# Altium integrated library Lattice ORCA Series 4.IntLib: 36 symbols (part 9 of 9)
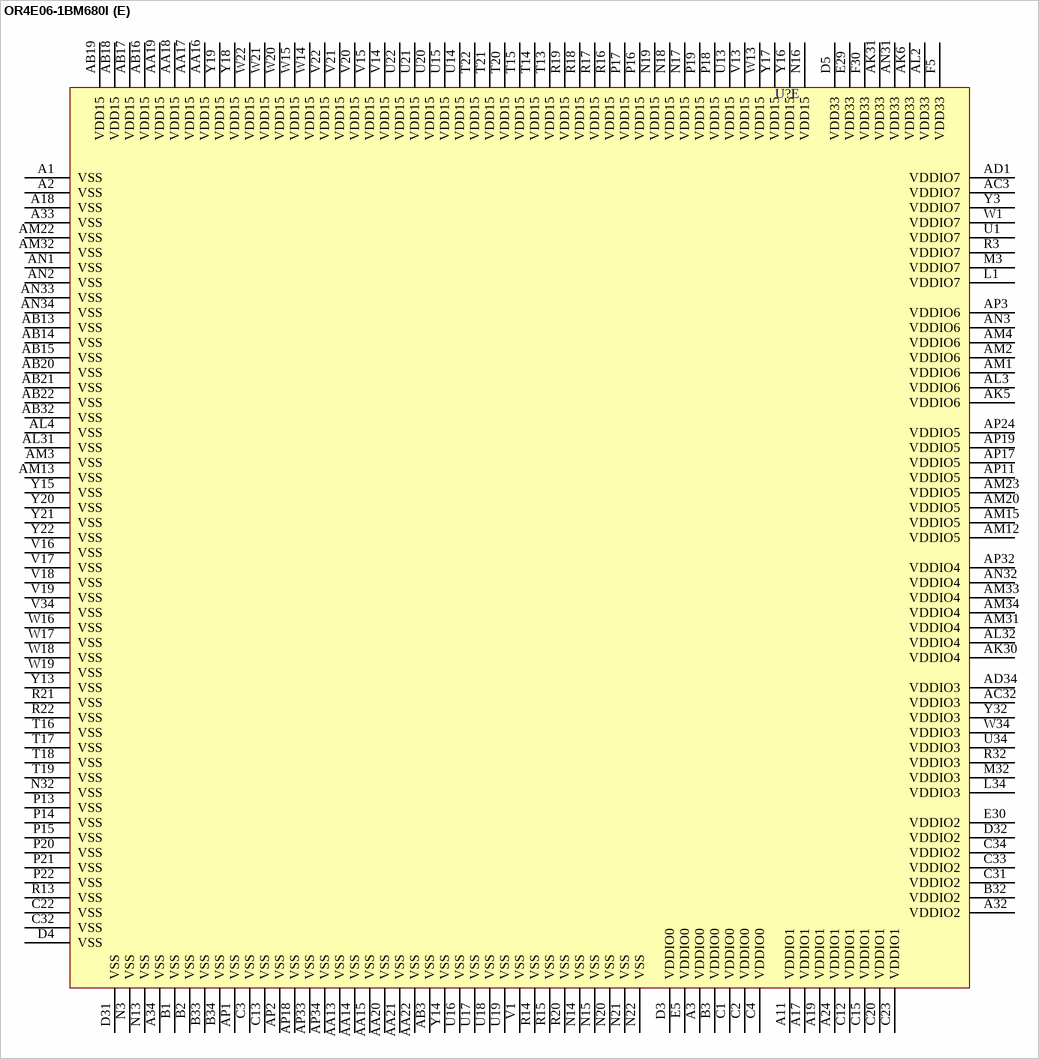
[diagram p126: symbol OR4E06-1BM680I]

## OR4E06-1BM680I
designator U?
ORCA Series 4 FPGA: 1.5 V, Industrial Grade, 466 I/Os.; Published: 21-May-2003; LatestRevisionDate: 13-Apr-2006; LatestRevisionNote: IPC-7351 Footprint Added.; DatasheetVersion: Aug-2003; PackageVersion: pkg_32, Aug-2005; PackageReference: fpBGA680; Publisher: Altium Limited; PackageDescription: 680-Ball Fine Pitch Ball Grid Array (fpBGA680); ComponentLink1Description: Manufacturer Link; ComponentLink1URL: http://www.latticesemi.com/products/fpga/orca/orca4/index.cfm; ComponentLink2Description: Datasheet; ComponentLink2URL: http://www.latticesemi.com/account/_download.cfm?AMID=3970; ComponentLink3Description: Lattice Login; ComponentLink3URL: http://www.latticesemi.com/account/login.cfm
footprint fpBGA680 (BGA, 680-Leads, Body 35x35mm, Pitch 1mm)
3D model OR4E06-fpBGA680 (680-Ball Fine Pitch Ball Grid Array (fpBGA680))
part A pins: AA1 PL28C/PLCK1T (io), AA2 PL28A (io), AA3 PL29A (io), AA4 PL32D/~{WR}/MPI_RW (io), AA5 PL30D/A6/PPC_A20 (io), AB1 PL30C/A5/PPC_A19 (io), AB2 PL31D (io), AB4 PL32C/VREF_7_07 (io), AB5 PL33D (io), AC1 PL33C (io), AC2 PL34D/A4/PPC_A18 (io), AC4 PL35A (io), AC5 PL34C/VREF_7_08 (io), AD2 PL35D/A3/PPC_A17 (io), AD3 PL35C/A2/PPC_A16 (io), AD4 PL37D/DP0 (io), AD5 PL37A (io), AE1 PL36D/A1/PPC_A15 (io), AE2 PL36C/A0/PPC_A14 (io), AE3 PL37C/DP1 (io), AE4 PL38A (io), AE5 PL40D (io), AF1 PL38D/D8 (io), AF2 PL38C/VREF_6_01 (io), AF3 PL39D/D9 (io), AF4 PL39C/D10 (io), AF5 PL41C (io), AG1 PL40C/VREF_6_02 (io), AG2 PL41D (io), AG3 PL42D/D11 (io), AG4 PL42C/D12 (io), AG5 PL44C/D13 (io), AH1 PL43D (io), AH2 PL44B (io), AH3 PL43C (io), AH4 PL44D/VREF_6_03 (io), AH5 PL45C/VREF_6_04 (io), AJ1 PL46A (io), AJ2 PL45D (io), AJ3 PL45A (io), AJ4 PL46D (io), AJ5 PL47B (io), AK1 PL47D/PLL_CK7C/HPPLL (io), AK2 PL47C/PLL_CK7T/HPPLL (io), AK3 PL47A (io), D1 PL2D/PLL_CK0C/HPPLL (io), E1 PL5D (io), E2 PL4D/D5 (io), F1 PL6C/~{LDC} (io), F2 PL5C/VREF_0_08 (io), F3 PL3D (io), F4 PL2C/PLL_CK0T/HPPLL (io), G1 PL9C/A17/PPC_A31 (io), G2 PL8C/D7 (io), G3 PL7C (io), G4 PL3C/VREF_0_07 (io), H1 PL12D/~{INIT} (io), H2 PL11C (io), H3 PL8D/TESTCFG (io), H4 PL7D (io), H5 PL4C/D6 (io), J1 PL13D/VREF_0_10 (io), J2 PL12C/DOUT (io), J3 PL11D (io), J4 PL10D/~{CS0} (io), J5 PL6D/HDC (io), K1 PL15D (io), K2 PL14C/A14/PPC_A28 (io), K3 PL13C/A16/PPC_A30 (io), K4 PL11A (io), K5 PL9D/VREF_0_09 (io), L2 PL15C (io), L3 PL16D/VREF_7_01 (io), L4 PL14D/A15/PPC_A29 (io), L5 PL10C/CS1 (io), M1 PL18C/VREF_7_02 (io), M2 PL17C (io), M4 PL17D (io), M5 PL13A (io), N1 PL19D/A13/PPC_A27 (io), N2 PL20D (io), N4 PL19C/A12/PPC_A26 (io), N5 PL16C/D4 (io), P1 PL20C (io), P2 PL21D/A11/PPC_A25 (io), P3 PL21C/VREF_7_03 (io), P4 PL22D (io), P5 PL18D/RDY/~{BUSY}/RCLK (io), R1 PL22C (io), R2 PL22A (io), R4 PL22B (io), R5 PL20A (io), T1 PL23A (io), T2 PL24D/PLCK0C (io), T3 PL24C/PLCK0T (io), T4 PL23C/VREF_7_04 (io), T5 PL21A (io), U2 PL25D/A10/PPC_A24 (io), U3 PL24A (io), U4 PL24B (io), U5 PL23D/~{RD}/~{MPI_STRB} (io), V2 PL25C/A9/PPC_A23 (io), V3 PL25B (io), V4 PL25A (io), V5 PL23B (io), W2 PL26C/VREF_7_05 (io), W3 PL27D (io), W4 PL28D/PLCK1C (io), W5 PL26D/A8/PPC_A22 (io), Y1 PL27C (io), Y2 PL27A (io), Y4 PL29C/A7/PPC_A21 (io), Y5 PL29D/VREF_7_06 (io)
part B pins: AK7 PB2D/PLL_CK6C/PPLL (io), AK8 PB5C (io), AK9 PB6D/D14 (io), AK10 PB9C/D17 (io), AK11 PB10C/VREF_6_07 (io), AK12 PB13A (io), AK13 PB14C/VREF_6_09 (io), AK14 PB15D (io), AK15 PB18D/D28 (io), AK16 PB19D/D30 (io), AK17 PB21D (io), AK18 PB24D (io), AK19 PB28A (io), AK20 PB29A (io), AK21 PB30A (io), AK22 PB31C (io), AK23 PB32D/VREF_5_05 (io), AK24 PB35C (io), AK25 PB38C/VREF_4_01 (io), AK26 PB39D (io), AK27 PB42C (io), AK28 PB44C (io), AK29 PB46C (io), AL5 PB2A/DP2 (io), AL6 PB3C (io), AL7 PB4C/VREF_6_05 (io), AL8 PB7D (io), AL9 PB10A (io), AL10 PB11C/D20 (io), AL11 PB13B (io), AL12 PB14D/D25 (io), AL13 PB17C (io), AL14 PB20A (io), AL15 PB20D/D31 (io), AL16 PB22A (io), AL17 PB23B (io), AL18 PB24A (io), AL19 PB24C/VREF_5_02 (io), AL20 PB27A (io), AL21 PB28D/PBCK1C (io), AL22 PB30C (io), AL23 PB30D/VREF_5_04 (io), AL24 PB34C (io), AL25 PB36C (io), AL26 PB38D (io), AL27 PB41C (io), AL28 PB41D (io), AL29 PB45A (io), AL30 PB47C/PLL_CK5T/PPLL (io), AM5 PB2B (io), AM6 PB3D (io), AM7 PB8C/D15 (io), AM8 PB8D/D16 (io), AM9 PB10D/D19 (io), AM10 PB12D/D22 (io), AM11 PB14B (io), AM14 PB19C/D29 (io), AM16 PB22C/VREF_5_01 (io), AM17 PB23C/PBCK0T (io), AM18 PB23D/PBCK0C (io), AM19 PB25C (io), AM21 PB28C/PBCK1T (io), AM24 PB33D (io), AM25 PB36D (io), AM26 PB37A (io), AM27 PB39C (io), AM28 PB43A (io), AM29 PB44D/VREF_4_03 (io), AM30 PB46D/VREF_4_04 (io), AN4 PB2C/PLL_CK6T/PPLL (io), AN5 PB4D/DP3 (io), AN6 PB6C/VREF_6_06 (io), AN7 PB9A (io), AN8 PB11A (io), AN9 PB12A (io), AN10 PB13C/D23 (io), AN11 PB14A (io), AN12 PB15C (io), AN13 PB17D (io), AN14 PB19A (io), AN15 PB21A (io), AN16 PB21C (io), AN17 PB23A (io), AN18 PB24B (io), AN19 PB25D (io), AN20 PB26D/VREF_5_03 (io), AN21 PB27D (io), AN22 PB29D (io), AN23 PB31D (io), AN24 PB33C (io), AN25 PB35A (io), AN26 PB36A (io), AN27 PB37D (io), AN28 PB40D/VREF_4_02 (io), AN29 PB43D (io), AN30 PB45D (io), AP4 PB3A (io), AP5 PB5D (io), AP6 PB7C (io), AP7 PB9D/D18 (io), AP8 PB11D/D21 (io), AP9 PB12C/VREF_6_08 (io), AP10 PB13D/D24 (io), AP12 PB16C/D26 (io), AP13 PB16D/D27 (io), AP14 PB18C/VREF_6_10 (io), AP15 PB20C/VREF_6_11 (io), AP16 PB22D (io), AP20 PB26C (io), AP21 PB27C (io), AP22 PB29C (io), AP23 PB32C (io), AP25 PB34D (io), AP26 PB35D/VREF_5_06 (io), AP27 PB37C (io), AP28 PB40C (io), AP29 PB45B (io), AP30 PB45C (io), AP31 PB47D/PLL_CK5C/PPLL (io)
part C pins: AA30 PR32D (io), AA31 PR31A (io), AA32 PR30C (io), AA33 PR28C (io), AA34 PR28A (io), AB30 PR33D (io), AB31 PR32C (io), AB33 PR31D/VREF_3_02 (io), AB34 PR29C (io), AC30 PR35D (io), AC31 PR34D (io), AC33 PR31C (io), AC34 PR30A (io), AD30 PR36C (io), AD31 PR34A (io), AD32 PR33C/VREF_3_01 (io), AD33 PR32B (io), AE30 PR38A (io), AE31 PR37D/VREF_4_08 (io), AE32 PR35C (io), AE33 PR34C (io), AE34 PR33B (io), AF30 PR40A (io), AF31 PR38D (io), AF32 PR37A (io), AF33 PR36B (io), AF34 PR36D (io), AG30 PR42D (io), AG31 PR40D (io), AG32 PR39C (io), AG33 PR37C (io), AG34 PR36A (io), AH30 PR45D (io), AH31 PR43D (io), AH32 PR39A (io), AH33 PR39D/VREF_4_07 (io), AH34 PR38C (io), AJ30 PR46C/PLL_CK4T/PLL2 (io), AJ31 PR44D (io), AJ32 PR43C (io), AJ33 PR41D (io), AJ34 PR40C (io), AK32 PR46D/PLL_CK4C/PLL2 (io), AK33 PR42C (io), AK34 PR41C/VREF_4_06 (io), AL33 PR45C (io), AL34 PR44C/VREF_4_05 (io), D33 PR5D (io), D34 PR6A (io), E31 PR3C/PLL_CK3T/PLL1 (io), E32 PR4D/VREF_2_04 (io), E33 PR5C (io), E34 PR7C (io), F31 PR6D (io), F32 PR6C (io), F33 PR9C/VREF_2_02 (io), F34 PR9A (io), G30 PR3D/PLL_CK3C/PLL1 (io), G31 PR8D (io), G32 PR9D (io), G33 PR10D (io), G34 PR12D (io), H30 PR4C (io), H31 PR10C (io), H32 PR11D (io), H33 PR11C (io), H34 PR13A (io), J30 PR7D/VREF_2_03 (io), J31 PR13D/VREF_2_01 (io), J32 PR12C (io), J33 PR13C (io), J34 PR13B (io), K30 PR8C (io), K31 PR14D (io), K32 PR14A (io), K33 PR15D (io), K34 PR15C (io), L30 PR10A (io), L31 PR16D (io), L32 PR17D (io), L33 PR15A (io), M30 PR11A (io), M31 PR18C (io), M33 PR18D (io), M34 PR17C/VREF_3_07 (io), N30 PR14C/VREF_3_08 (io), N31 PR19D (io), N33 PR19C (io), N34 PR18B (io), P30 PR17A (io), P31 PR20C (io), P32 PR21D/VREF_3_06 (io), P33 PR20D (io), P34 PR21C (io), R30 PR19B (io), R31 PR22C (io), R33 PR21A (io), R34 PR22D (io), T30 PR20A (io), T31 PR23D (io), T32 PR23C/VREF_3_05 (io), T33 PR23A (io), T34 PR24C/PRCK0T (io), U30 PR22A (io), U31 PR24D/PRCK0C (io), U32 PR24B (io), U33 PR24A (io), V30 PR26C (io), V31 PR26D/VREF_3_04 (io), V32 PR25D (io), V33 PR25C (io), W30 PR29D/VREF_3_03 (io), W31 PR28D (io), W32 PR26A (io), W33 PR27D/PRCK1C (io), Y30 PR30D (io), Y31 PR29B (io), Y33 PR27A (io), Y34 PR27C/PRCK1T (io)
part D pins: A4 PT3B (io), A5 PT4A (io), A6 PT5D (io), A7 PT6C/D2 (io), A8 PT9C/A19/MPI_TSZ1 (io), A9 PT10C/TMS (io), A10 PT12D (io), A12 PT16D/M0 (io), A13 PT19C/VREF_1_06 (io), A14 PT20C (io), A15 PT21C (io), A16 PT23B (io), A20 PT26C (io), A21 PT27D (io), A22 PT28C (io), A23 PT29D (io), A25 PT35B (io), A26 PT36A (io), A27 PT36C (io), A28 PT38D (io), A29 PT41D (io), A30 PT42D/VREF_2_06 (io), A31 PT45C (io), AK4 PTEMP, AL1 LVDS_R (io), B4 DONE (io), B5 PT3A (io), B6 PT3D (io), B7 PT5C/VREF_0_05 (io), B8 PT8D/A18/MPI_TSZ0 (io), B9 PT10D/D0 (io), B10 PT12C (io), B11 PT15C/A21/~{MPI_BURST} (io), B12 PT16C/M1 (io), B13 PT19A (io), B14 PT20A (io), B15 PT21A (io), B16 PT22D/PTCK0C (io), B17 PT23D/PTCK1C (io), B18 PT24A (io), B19 PT25D (io), B20 PT26D (io), B21 PT27C (io), B22 PT30C (io), B23 PT30D (io), B24 PT32D (io), B25 PT34C (io), B26 PT36B (io), B27 PT37A (io), B28 PT39D (io), B29 PT44C (io), B30 PT46C (io), B31 PT47C/PLL_CK2T/PPLL (io), C5 PT2B (io), C6 PT2C/PLL_CK1T/PPLL (io), C7 PT4D/TDI (io), C8 PT7D/VREF_0_04 (io), C9 PT11D/VREF_0_03 (io), C10 PT12A (io), C11 PT14D/M2 (io), C14 PT17D (io), C16 PT22C/PTCK0T (io), C17 PT23C/PTCK1T (io), C18 PT24B (io), C19 PT25C (io), C21 PT29C/VREF_1_03 (io), C24 PT33D (io), C25 PT35D (io), C26 PT37D (io), C27 PT40C/VREF_2_07 (io), C28 PT40D (io), C29 PT43C (io), C30 PT47D/PLL_CK2C/PPLL (io), D2 ~{RD_CFG} (in), D6 PT2D/PLL_CK1C/PPLL (io), D7 PT4C/TCK (io), D8 PT7C (io), D9 PT9D/A20/~{MPI_BDIP} (io), D10 PT11C (io), D11 PT13C/~{MPI_TEA} (io), D12 PT13D/VREF_0_02 (io), D13 PT17C/VREF_0_01 (io), D14 PT18C/~{MPI_ACK} (io), D15 PT20D (io), D16 PT22A (io), D17 PT23A (io), D18 PT24C/VREF_1_04 (io), D19 PT27A (io), D20 PT28D (io), D21 PT31C (io), D22 PT32C/VREF_1_02 (io), D23 PT34D/VREF_1_01 (io), D24 PT35A (io), D25 PT36D (io), D26 PT38C/VREF_2_08 (io), D27 PT41C (io), D28 PT44D (io), D29 PT45D/VREF_2_05 (io), D30 PLL_VF, E3 ~{RESET} (in), E4 RD_DATA/TDO (out), E6 CCLK (io), E7 ~{CFG_IRQ/MPI_IRQ} (out), E8 PT2A (io), E9 PT3C/VREF_0_06 (io), E10 PT4B (io), E11 PT6D/D1 (io), E12 PT8C/D3 (io), E13 PT11A (io), E14 PT14C/M3 (io), E15 PT15D/MPI_CLK (io), E16 PT18D/~{MPI_RTRY} (io), E17 PT19D (io), E18 PT21D/VREF_1_05 (io), E19 PT24D (io), E20 PT28A (io), E21 PT29A (io), E22 PT31D (io), E23 PT33C (io), E24 PT35C (io), E25 PT39C (io), E26 PT42C (io), E27 PT43D (io), E28 PT46D (io), G5 ~{PRGM} (in)
part E pins: A1 VSS (power), A2 VSS (power), A3 VDDIO0 (power), A11 VDDIO1 (power), A17 VDDIO1 (power), A18 VSS (power), A19 VDDIO1 (power), A24 VDDIO1 (power), A32 VDDIO2 (power), A33 VSS (power), A34 VSS (power), AA13 VSS (power), AA14 VSS (power), AA15 VSS (power), AA16 VDD15 (power), AA17 VDD15 (power), AA18 VDD15 (power), AA19 VDD15 (power), AA20 VSS (power), AA21 VSS (power), AA22 VSS (power), AB3 VSS (power), AB13 VSS (power), AB14 VSS (power), AB15 VSS (power), AB16 VDD15 (power), AB17 VDD15 (power), AB18 VDD15 (power), AB19 VDD15 (power), AB20 VSS (power), AB21 VSS (power), AB22 VSS (power), AB32 VSS (power), AC3 VDDIO7 (power), AC32 VDDIO3 (power), AD1 VDDIO7 (power), AD34 VDDIO3 (power), AK5 VDDIO6 (power), AK6 VDD33 (power), AK30 VDDIO4 (power), AK31 VDD33 (power), AL2 VDD33 (power), AL3 VDDIO6 (power), AL4 VSS (power), AL31 VSS (power), AL32 VDDIO4 (power), AM1 VDDIO6 (power), AM2 VDDIO6 (power), AM3 VSS (power), AM4 VDDIO6 (power), AM12 VDDIO5 (power), AM13 VSS (power), AM15 VDDIO5 (power), AM20 VDDIO5 (power), AM22 VSS (power), AM23 VDDIO5 (power), AM31 VDDIO4 (power), AM32 VSS (power), AM33 VDDIO4 (power), AM34 VDDIO4 (power), AN1 VSS (power), AN2 VSS (power), AN3 VDDIO6 (power), AN31 VDD33 (power), AN32 VDDIO4 (power), AN33 VSS (power), AN34 VSS (power), AP1 VSS (power), AP2 VSS (power), AP3 VDDIO6 (power), AP11 VDDIO5 (power), AP17 VDDIO5 (power), AP18 VSS (power), AP19 VDDIO5 (power), AP24 VDDIO5 (power), AP32 VDDIO4 (power), AP33 VSS (power), AP34 VSS (power), B1 VSS (power), B2 VSS (power), B3 VDDIO0 (power), B32 VDDIO2 (power), B33 VSS (power), B34 VSS (power), C1 VDDIO0 (power), C2 VDDIO0 (power), C3 VSS (power), C4 VDDIO0 (power), C12 VDDIO1 (power), C13 VSS (power), C15 VDDIO1 (power), C20 VDDIO1 (power), C22 VSS (power), C23 VDDIO1 (power), C31 VDDIO2 (power), C32 VSS (power), C33 VDDIO2 (power), C34 VDDIO2 (power), D3 VDDIO0 (power), D4 VSS (power), D5 VDD33 (power), D31 VSS (power), D32 VDDIO2 (power), E5 VDDIO0 (power), E29 VDD33 (power), E30 VDDIO2 (power), F5 VDD33 (power), F30 VDD33 (power), L1 VDDIO7 (power), L34 VDDIO3 (power), M3 VDDIO7 (power), M32 VDDIO3 (power), N3 VSS (power), N13 VSS (power), N14 VSS (power), N15 VSS (power), N16 VDD15 (power), N17 VDD15 (power), N18 VDD15 (power), N19 VDD15 (power), N20 VSS (power), N21 VSS (power), N22 VSS (power), N32 VSS (power), P13 VSS (power), P14 VSS (power), P15 VSS (power), P16 VDD15 (power), P17 VDD15 (power), P18 VDD15 (power), P19 VDD15 (power), P20 VSS (power), P21 VSS (power), P22 VSS (power), R3 VDDIO7 (power), R13 VSS (power), R14 VSS (power), R15 VSS (power), R16 VDD15 (power), R17 VDD15 (power), R18 VDD15 (power), R19 VDD15 (power), R20 VSS (power), R21 VSS (power), R22 VSS (power), R32 VDDIO3 (power), T13 VDD15 (power), T14 VDD15 (power), T15 VDD15 (power), T16 VSS (power), T17 VSS (power), T18 VSS (power), T19 VSS (power), T20 VDD15 (power), T21 VDD15 (power), T22 VDD15 (power), U1 VDDIO7 (power), U13 VDD15 (power), U14 VDD15 (power), U15 VDD15 (power), U16 VSS (power), U17 VSS (power), U18 VSS (power), U19 VSS (power), U20 VDD15 (power), U21 VDD15 (power), U22 VDD15 (power), U34 VDDIO3 (power), V1 VSS (power), V13 VDD15 (power), V14 VDD15 (power), V15 VDD15 (power), V16 VSS (power), V17 VSS (power), V18 VSS (power), V19 VSS (power), V20 VDD15 (power), V21 VDD15 (power), V22 VDD15 (power), V34 VSS (power), W1 VDDIO7 (power), W13 VDD15 (power), W14 VDD15 (power), W15 VDD15 (power), W16 VSS (power), W17 VSS (power), W18 VSS (power), W19 VSS (power), W20 VDD15 (power), W21 VDD15 (power), W22 VDD15 (power), W34 VDDIO3 (power), Y3 VDDIO7 (power), Y13 VSS (power), Y14 VSS (power), Y15 VSS (power), Y16 VDD15 (power), Y17 VDD15 (power), Y18 VDD15 (power), Y19 VDD15 (power), Y20 VSS (power), Y21 VSS (power), Y22 VSS (power), Y32 VDDIO3 (power)

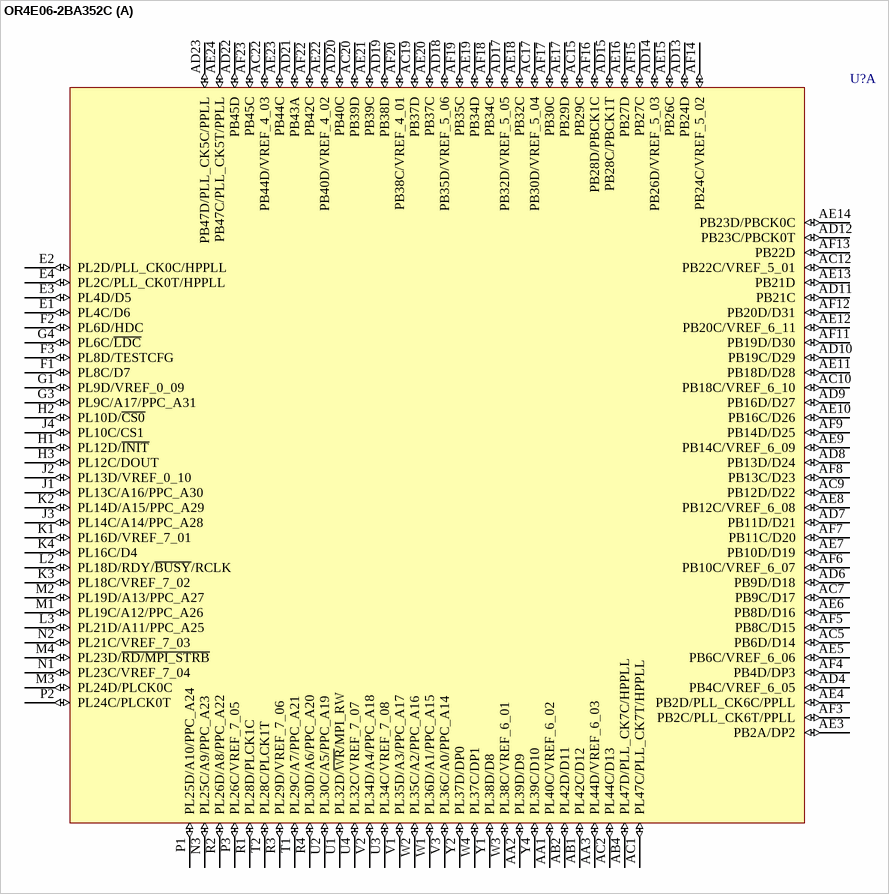
[diagram p112: symbol OR4E06-2BA352C]

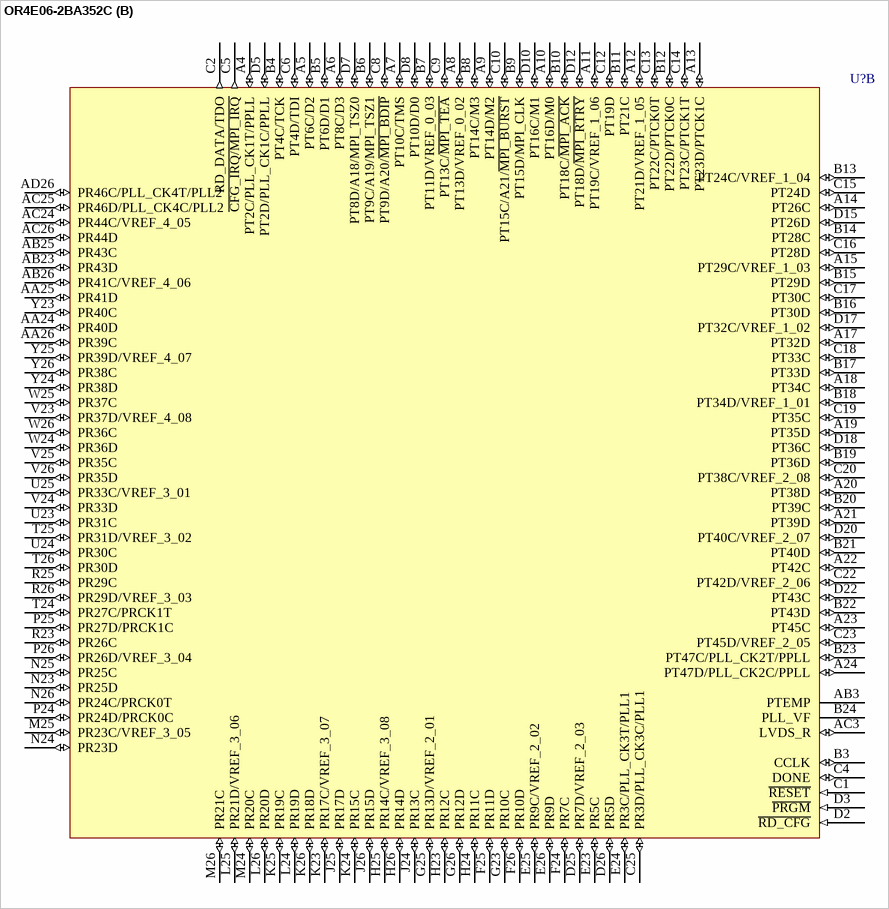
[diagram p113: symbol OR4E06-2BA352C]

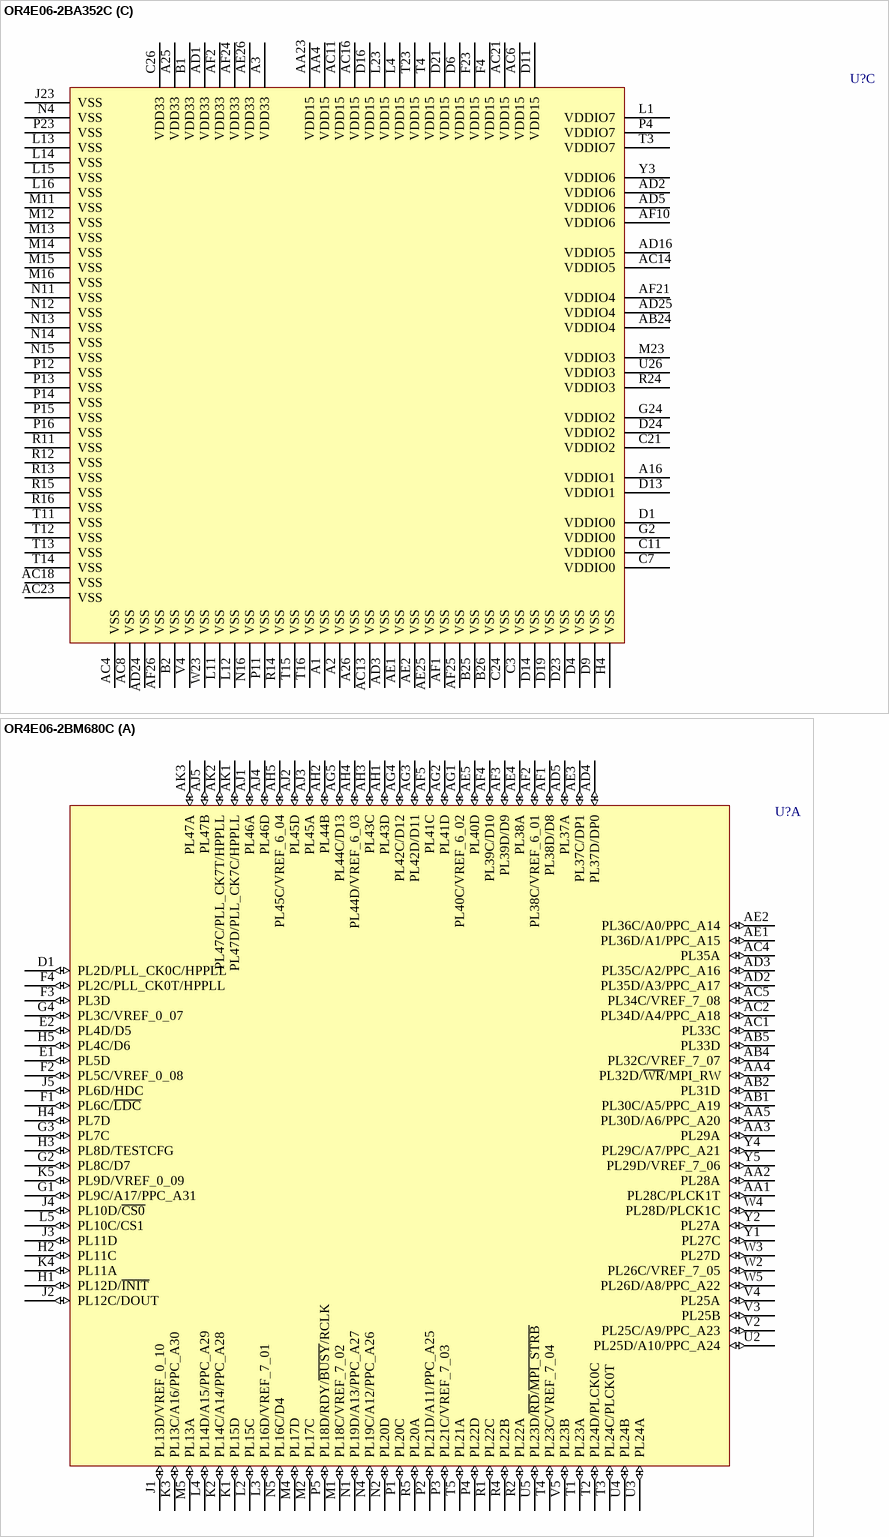
[diagram p114: symbols OR4E06-2BA352C to OR4E06-2BM680C]

## OR4E06-2BA352C
designator U?
ORCA Series 4 FPGA: 1.5 V, Commercial Grade, 466 I/Os.; Published: 21-May-2003; LatestRevisionDate: 13-Apr-2006; LatestRevisionNote: IPC-7351 Footprint Added.; DatasheetVersion: Aug-2003; PackageVersion: pkg_32, Aug-2005; PackageReference: BGA388; Publisher: Altium Limited; PackageDescription: 388-Ball Ball Grid Array (BGA388); ComponentLink1Description: Manufacturer Link; ComponentLink1URL: http://www.latticesemi.com/products/fpga/orca/orca4/index.cfm; ComponentLink2Description: Datasheet; ComponentLink2URL: http://www.latticesemi.com/account/_download.cfm?AMID=3970; ComponentLink3Description: Lattice Login; ComponentLink3URL: http://www.latticesemi.com/account/login.cfm
footprint BGA388 (BGA, 388-Leads, Body 35x35mm, Pitch 1.27mm)
3D model OR4E06-BGA388 (388-Ball Ball Grid Array (BGA388))
part A pins: AA1 PL40C/VREF_6_02 (io), AA2 PL39D/D9 (io), AA3 PL44D/VREF_6_03 (io), AB1 PL42C/D12 (io), AB2 PL42D/D11 (io), AB4 PL47D/PLL_CK7C/HPPLL (io), AC1 PL47C/PLL_CK7T/HPPLL (io), AC2 PL44C/D13 (io), AC5 PB6D/D14 (io), AC7 PB9C/D17 (io), AC9 PB12D/D22 (io), AC10 PB18C/VREF_6_10 (io), AC12 PB22C/VREF_5_01 (io), AC15 PB29C (io), AC17 PB30D/VREF_5_04 (io), AC19 PB37D (io), AC20 PB39D (io), AC22 PB44D/VREF_4_03 (io), AD4 PB4C/VREF_6_05 (io), AD6 PB9D/D18 (io), AD7 PB11D/D21 (io), AD8 PB13D/D24 (io), AD9 PB16D/D27 (io), AD10 PB19C/D29 (io), AD11 PB21C (io), AD12 PB23C/PBCK0T (io), AD13 PB24D (io), AD14 PB26D/VREF_5_03 (io), AD15 PB28C/PBCK1T (io), AD17 PB32D/VREF_5_05 (io), AD18 PB35D/VREF_5_06 (io), AD19 PB38D (io), AD20 PB40C (io), AD21 PB43A (io), AD22 PB45D (io), AD23 PB47D/PLL_CK5C/PPLL (io), AE3 PB2A/DP2 (io), AE4 PB2D/PLL_CK6C/PPLL (io), AE5 PB6C/VREF_6_06 (io), AE6 PB8D/D16 (io), AE7 PB10D/D19 (io), AE8 PB12C/VREF_6_08 (io), AE9 PB14C/VREF_6_09 (io), AE10 PB16C/D26 (io), AE11 PB18D/D28 (io), AE12 PB20C/VREF_6_11 (io), AE13 PB21D (io), AE14 PB23D/PBCK0C (io), AE15 PB26C (io), AE16 PB27D (io), AE17 PB29D (io), AE18 PB32C (io), AE19 PB34D (io), AE20 PB37C (io), AE21 PB39C (io), AE22 PB40D/VREF_4_02 (io), AE23 PB44C (io), AE24 PB47C/PLL_CK5T/PPLL (io), AF3 PB2C/PLL_CK6T/PPLL (io), AF4 PB4D/DP3 (io), AF5 PB8C/D15 (io), AF6 PB10C/VREF_6_07 (io), AF7 PB11C/D20 (io), AF8 PB13C/D23 (io), AF9 PB14D/D25 (io), AF11 PB19D/D30 (io), AF12 PB20D/D31 (io), AF13 PB22D (io), AF14 PB24C/VREF_5_02 (io), AF15 PB27C (io), AF16 PB28D/PBCK1C (io), AF17 PB30C (io), AF18 PB34C (io), AF19 PB35C (io), AF20 PB38C/VREF_4_01 (io), AF22 PB42C (io), AF23 PB45C (io), E1 PL4C/D6 (io), E2 PL2D/PLL_CK0C/HPPLL (io), E3 PL4D/D5 (io), E4 PL2C/PLL_CK0T/HPPLL (io), F1 PL8C/D7 (io), F2 PL6D/HDC (io), F3 PL8D/TESTCFG (io), G1 PL9D/VREF_0_09 (io), G3 PL9C/A17/PPC_A31 (io), G4 PL6C/~{LDC} (io), H1 PL12D/~{INIT} (io), H2 PL10D/~{CS0} (io), H3 PL12C/DOUT (io), J1 PL13C/A16/PPC_A30 (io), J2 PL13D/VREF_0_10 (io), J3 PL14C/A14/PPC_A28 (io), J4 PL10C/CS1 (io), K1 PL16D/VREF_7_01 (io), K2 PL14D/A15/PPC_A29 (io), K3 PL18C/VREF_7_02 (io), K4 PL16C/D4 (io), L2 PL18D/RDY/~{BUSY}/RCLK (io), L3 PL21D/A11/PPC_A25 (io), M1 PL19C/A12/PPC_A26 (io), M2 PL19D/A13/PPC_A27 (io), M3 PL24D/PLCK0C (io), M4 PL23D/~{RD/MPI_STRB} (io), N1 PL23C/VREF_7_04 (io), N2 PL21C/VREF_7_03 (io), N3 PL25C/A9/PPC_A23 (io), P1 PL25D/A10/PPC_A24 (io), P2 PL24C/PLCK0T (io), P3 PL26C/VREF_7_05 (io), R1 PL28D/PLCK1C (io), R2 PL26D/A8/PPC_A22 (io), R3 PL29D/VREF_7_06 (io), R4 PL30D/A6/PPC_A20 (io), T1 PL29C/A7/PPC_A21 (io), T2 PL28C/PLCK1T (io), U1 PL32D/~{WR}/MPI_RW (io), U2 PL30C/A5/PPC_A19 (io), U3 PL34C/VREF_7_08 (io), U4 PL32C/VREF_7_07 (io), V1 PL35D/A3/PPC_A17 (io), V2 PL34D/A4/PPC_A18 (io), V3 PL36C/A0/PPC_A14 (io), W1 PL36D/A1/PPC_A15 (io), W2 PL35C/A2/PPC_A16 (io), W3 PL38C/VREF_6_01 (io), W4 PL37C/DP1 (io), Y1 PL38D/D8 (io), Y2 PL37D/DP0 (io), Y4 PL39C/D10 (io)
part B pins: A4 PT2C/PLL_CK1T/PPLL (io), A5 PT6C/D2 (io), A6 PT8C/D3 (io), A7 PT10C/TMS (io), A8 PT13D/VREF_0_02 (io), A9 PT14D/M2 (io), A10 PT16D/M0 (io), A11 PT19C/VREF_1_06 (io), A12 PT21D/VREF_1_05 (io), A13 PT23D/PTCK1C (io), A14 PT26C (io), A15 PT29C/VREF_1_03 (io), A17 PT32D (io), A18 PT34C (io), A19 PT35D (io), A20 PT38D (io), A21 PT39D (io), A22 PT42C (io), A23 PT45C (io), A24 PT47D/PLL_CK2C/PPLL (io), AA24 PR40D (io), AA25 PR41D (io), AA26 PR39C (io), AB3 PTEMP, AB23 PR43D (io), AB25 PR43C (io), AB26 PR41C/VREF_4_06 (io), AC3 LVDS_R (io), AC24 PR44C/VREF_4_05 (io), AC25 PR46D/PLL_CK4C/PLL2 (io), AC26 PR44D (io), AD26 PR46C/PLL_CK4T/PLL2 (io), B3 CCLK (io), B4 PT4C/TCK (io), B5 PT6D/D1 (io), B6 PT9C/A19/MPI_TSZ1 (io), B7 PT11D/VREF_0_03 (io), B8 PT14C/M3 (io), B9 PT15D/MPI_CLK (io), B10 PT18C/~{MPI_ACK} (io), B11 PT21C (io), B12 PT22D/PTCK0C (io), B13 PT24C/VREF_1_04 (io), B14 PT28C (io), B15 PT29D (io), B16 PT30D (io), B17 PT33D (io), B18 PT34D/VREF_1_01 (io), B19 PT36D (io), B20 PT39C (io), B21 PT40D (io), B22 PT43D (io), B23 PT47C/PLL_CK2T/PPLL (io), B24 PLL_VF, C1 ~{RESET} (in), C2 RD_DATA/TDO (out), C4 DONE (io), C5 ~{CFG_IRQ/MPI_IRQ} (out), C6 PT4D/TDI (io), C8 PT9D/A20/~{MPI_BDIP} (io), C9 PT13C/~{MPI_TEA} (io), C10 PT15C/A21/~{MPI_BURST} (io), C12 PT19D (io), C13 PT22C/PTCK0T (io), C14 PT23C/PTCK1T (io), C15 PT24D (io), C16 PT28D (io), C17 PT30C (io), C18 PT33C (io), C19 PT35C (io), C20 PT38C/VREF_2_08 (io), C22 PT42D/VREF_2_06 (io), C23 PT45D/VREF_2_05 (io), C25 PR3D/PLL_CK3C/PLL1 (io), D2 ~{RD_CFG} (in), D3 ~{PRGM} (in), D5 PT2D/PLL_CK1C/PPLL (io), D7 PT8D/A18/MPI_TSZ0 (io), D8 PT10D/D0 (io), D10 PT16C/M1 (io), D12 PT18D/~{MPI_RTRY} (io), D15 PT26D (io), D17 PT32C/VREF_1_02 (io), D18 PT36C (io), D20 PT40C/VREF_2_07 (io), D22 PT43C (io), D25 PR7D/VREF_2_03 (io), D26 PR5D (io), E23 PR5C (io), E24 PR3C/PLL_CK3T/PLL1 (io), E25 PR9C/VREF_2_02 (io), E26 PR9D (io), F24 PR7C (io), F25 PR11D (io), F26 PR10D (io), G23 PR10C (io), G25 PR13D/VREF_2_01 (io), G26 PR12D (io), H23 PR12C (io), H24 PR11C (io), H25 PR14C/VREF_3_08 (io), H26 PR14D (io), J24 PR13C (io), J25 PR17D (io), J26 PR15D (io), K23 PR17C/VREF_3_07 (io), K24 PR15C (io), K25 PR19C (io), K26 PR18D (io), L24 PR19D (io), L25 PR21D/VREF_3_06 (io), L26 PR20D (io), M24 PR20C (io), M25 PR23C/VREF_3_05 (io), M26 PR21C (io), N23 PR25D (io), N24 PR23D (io), N25 PR25C (io), N26 PR24C/PRCK0T (io), P24 PR24D/PRCK0C (io), P25 PR27D/PRCK1C (io), P26 PR26D/VREF_3_04 (io), R23 PR26C (io), R25 PR29C (io), R26 PR29D/VREF_3_03 (io), T24 PR27C/PRCK1T (io), T25 PR31D/VREF_3_02 (io), T26 PR30D (io), U23 PR31C (io), U24 PR30C (io), U25 PR33C/VREF_3_01 (io), V23 PR37D/VREF_4_08 (io), V24 PR33D (io), V25 PR35C (io), V26 PR35D (io), W24 PR36D (io), W25 PR37C (io), W26 PR36C (io), Y23 PR40C (io), Y24 PR38D (io), Y25 PR39D/VREF_4_07 (io), Y26 PR38C (io)
part C pins: A1 VSS (power), A2 VSS (power), A3 VDD33 (power), A16 VDDIO1 (power), A25 VDD33 (power), A26 VSS (power), AA4 VDD15 (power), AA23 VDD15 (power), AB24 VDDIO4 (power), AC4 VSS (power), AC6 VDD15 (power), AC8 VSS (power), AC11 VDD15 (power), AC13 VSS (power), AC14 VDDIO5 (power), AC16 VDD15 (power), AC18 VSS (power), AC21 VDD15 (power), AC23 VSS (power), AD1 VDD33 (power), AD2 VDDIO6 (power), AD3 VSS (power), AD5 VDDIO6 (power), AD16 VDDIO5 (power), AD24 VSS (power), AD25 VDDIO4 (power), AE1 VSS (power), AE2 VSS (power), AE25 VSS (power), AE26 VDD33 (power), AF1 VSS (power), AF2 VDD33 (power), AF10 VDDIO6 (power), AF21 VDDIO4 (power), AF24 VDD33 (power), AF25 VSS (power), AF26 VSS (power), B1 VDD33 (power), B2 VSS (power), B25 VSS (power), B26 VSS (power), C3 VSS (power), C7 VDDIO0 (power), C11 VDDIO0 (power), C21 VDDIO2 (power), C24 VSS (power), C26 VDD33 (power), D1 VDDIO0 (power), D4 VSS (power), D6 VDD15 (power), D9 VSS (power), D11 VDD15 (power), D13 VDDIO1 (power), D14 VSS (power), D16 VDD15 (power), D19 VSS (power), D21 VDD15 (power), D23 VSS (power), D24 VDDIO2 (power), F4 VDD15 (power), F23 VDD15 (power), G2 VDDIO0 (power), G24 VDDIO2 (power), H4 VSS (power), J23 VSS (power), L1 VDDIO7 (power), L4 VDD15 (power), L11 VSS (power), L12 VSS (power), L13 VSS (power), L14 VSS (power), L15 VSS (power), L16 VSS (power), L23 VDD15 (power), M11 VSS (power), M12 VSS (power), M13 VSS (power), M14 VSS (power), M15 VSS (power), M16 VSS (power), M23 VDDIO3 (power), N4 VSS (power), N11 VSS (power), N12 VSS (power), N13 VSS (power), N14 VSS (power), N15 VSS (power), N16 VSS (power), P4 VDDIO7 (power), P11 VSS (power), P12 VSS (power), P13 VSS (power), P14 VSS (power), P15 VSS (power), P16 VSS (power), P23 VSS (power), R11 VSS (power), R12 VSS (power), R13 VSS (power), R14 VSS (power), R15 VSS (power), R16 VSS (power), R24 VDDIO3 (power), T3 VDDIO7 (power), T4 VDD15 (power), T11 VSS (power), T12 VSS (power), T13 VSS (power), T14 VSS (power), T15 VSS (power), T16 VSS (power), T23 VDD15 (power), U26 VDDIO3 (power), V4 VSS (power), W23 VSS (power), Y3 VDDIO6 (power)

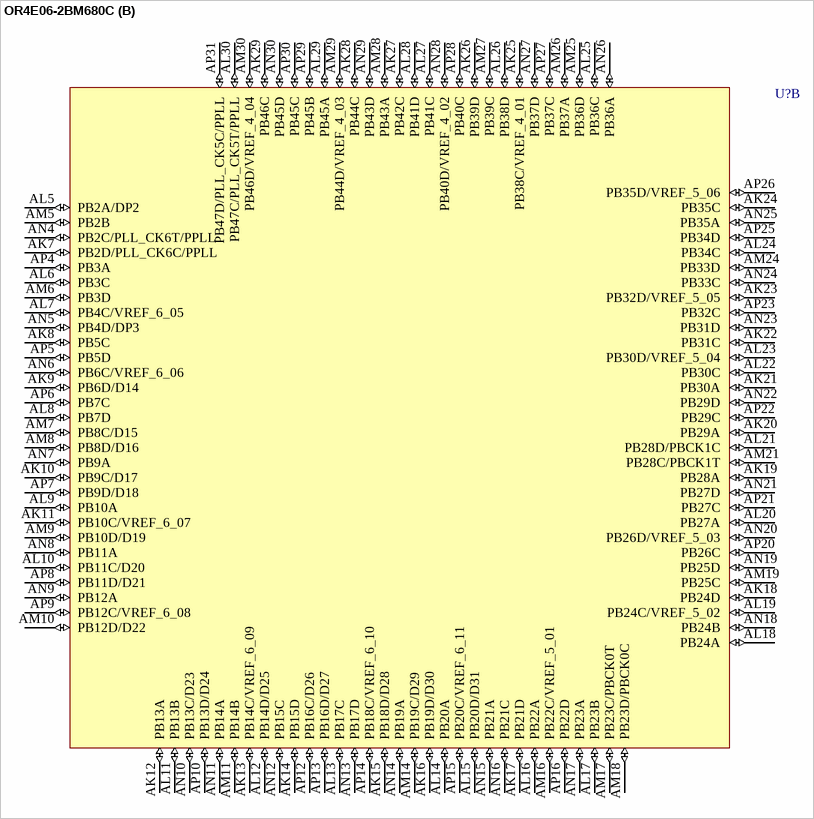
[diagram p115: symbol OR4E06-2BM680C]

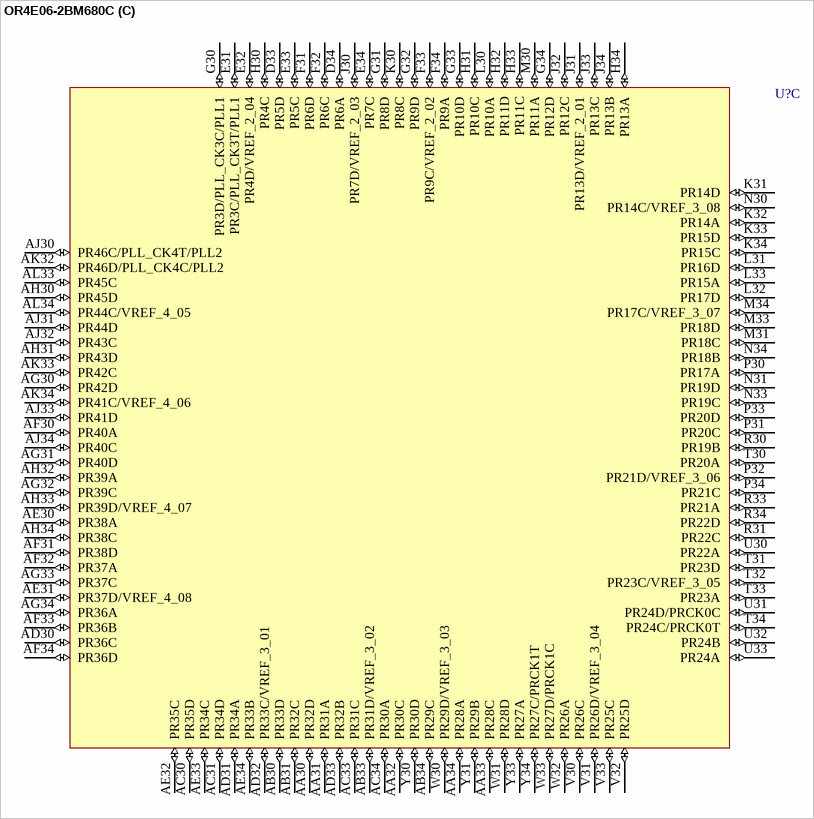
[diagram p116: symbol OR4E06-2BM680C]

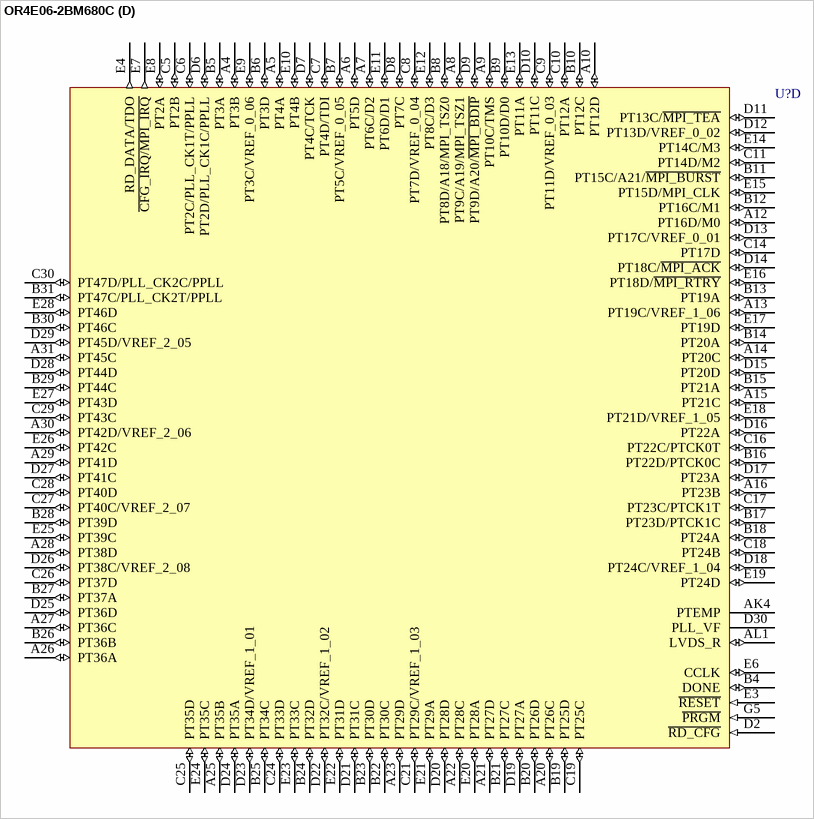
[diagram p117: symbol OR4E06-2BM680C]

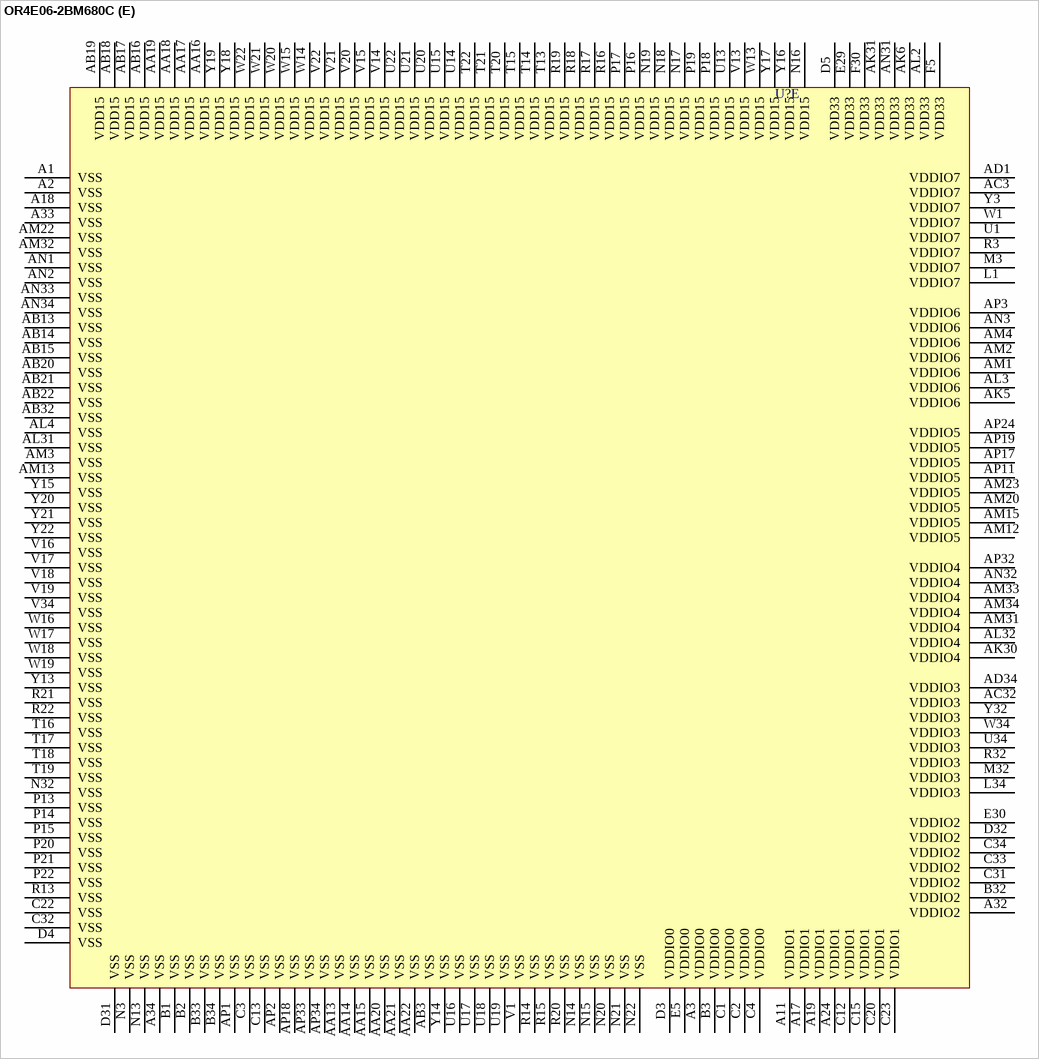
[diagram p118: symbol OR4E06-2BM680C]

## OR4E06-2BM680C
designator U?
ORCA Series 4 FPGA: 1.5 V, Commercial Grade, 466 I/Os.; Published: 21-May-2003; LatestRevisionDate: 13-Apr-2006; LatestRevisionNote: IPC-7351 Footprint Added.; DatasheetVersion: Aug-2003; PackageVersion: pkg_32, Aug-2005; PackageReference: fpBGA680; Publisher: Altium Limited; PackageDescription: 680-Ball Fine Pitch Ball Grid Array (fpBGA680); ComponentLink1Description: Manufacturer Link; ComponentLink1URL: http://www.latticesemi.com/products/fpga/orca/orca4/index.cfm; ComponentLink2Description: Datasheet; ComponentLink2URL: http://www.latticesemi.com/account/_download.cfm?AMID=3970; ComponentLink3Description: Lattice Login; ComponentLink3URL: http://www.latticesemi.com/account/login.cfm
footprint fpBGA680 (BGA, 680-Leads, Body 35x35mm, Pitch 1mm)
3D model OR4E06-fpBGA680 (680-Ball Fine Pitch Ball Grid Array (fpBGA680))
part A pins: AA1 PL28C/PLCK1T (io), AA2 PL28A (io), AA3 PL29A (io), AA4 PL32D/~{WR}/MPI_RW (io), AA5 PL30D/A6/PPC_A20 (io), AB1 PL30C/A5/PPC_A19 (io), AB2 PL31D (io), AB4 PL32C/VREF_7_07 (io), AB5 PL33D (io), AC1 PL33C (io), AC2 PL34D/A4/PPC_A18 (io), AC4 PL35A (io), AC5 PL34C/VREF_7_08 (io), AD2 PL35D/A3/PPC_A17 (io), AD3 PL35C/A2/PPC_A16 (io), AD4 PL37D/DP0 (io), AD5 PL37A (io), AE1 PL36D/A1/PPC_A15 (io), AE2 PL36C/A0/PPC_A14 (io), AE3 PL37C/DP1 (io), AE4 PL38A (io), AE5 PL40D (io), AF1 PL38D/D8 (io), AF2 PL38C/VREF_6_01 (io), AF3 PL39D/D9 (io), AF4 PL39C/D10 (io), AF5 PL41C (io), AG1 PL40C/VREF_6_02 (io), AG2 PL41D (io), AG3 PL42D/D11 (io), AG4 PL42C/D12 (io), AG5 PL44C/D13 (io), AH1 PL43D (io), AH2 PL44B (io), AH3 PL43C (io), AH4 PL44D/VREF_6_03 (io), AH5 PL45C/VREF_6_04 (io), AJ1 PL46A (io), AJ2 PL45D (io), AJ3 PL45A (io), AJ4 PL46D (io), AJ5 PL47B (io), AK1 PL47D/PLL_CK7C/HPPLL (io), AK2 PL47C/PLL_CK7T/HPPLL (io), AK3 PL47A (io), D1 PL2D/PLL_CK0C/HPPLL (io), E1 PL5D (io), E2 PL4D/D5 (io), F1 PL6C/~{LDC} (io), F2 PL5C/VREF_0_08 (io), F3 PL3D (io), F4 PL2C/PLL_CK0T/HPPLL (io), G1 PL9C/A17/PPC_A31 (io), G2 PL8C/D7 (io), G3 PL7C (io), G4 PL3C/VREF_0_07 (io), H1 PL12D/~{INIT} (io), H2 PL11C (io), H3 PL8D/TESTCFG (io), H4 PL7D (io), H5 PL4C/D6 (io), J1 PL13D/VREF_0_10 (io), J2 PL12C/DOUT (io), J3 PL11D (io), J4 PL10D/~{CS0} (io), J5 PL6D/HDC (io), K1 PL15D (io), K2 PL14C/A14/PPC_A28 (io), K3 PL13C/A16/PPC_A30 (io), K4 PL11A (io), K5 PL9D/VREF_0_09 (io), L2 PL15C (io), L3 PL16D/VREF_7_01 (io), L4 PL14D/A15/PPC_A29 (io), L5 PL10C/CS1 (io), M1 PL18C/VREF_7_02 (io), M2 PL17C (io), M4 PL17D (io), M5 PL13A (io), N1 PL19D/A13/PPC_A27 (io), N2 PL20D (io), N4 PL19C/A12/PPC_A26 (io), N5 PL16C/D4 (io), P1 PL20C (io), P2 PL21D/A11/PPC_A25 (io), P3 PL21C/VREF_7_03 (io), P4 PL22D (io), P5 PL18D/RDY/~{BUSY}/RCLK (io), R1 PL22C (io), R2 PL22A (io), R4 PL22B (io), R5 PL20A (io), T1 PL23A (io), T2 PL24D/PLCK0C (io), T3 PL24C/PLCK0T (io), T4 PL23C/VREF_7_04 (io), T5 PL21A (io), U2 PL25D/A10/PPC_A24 (io), U3 PL24A (io), U4 PL24B (io), U5 PL23D/~{RD}/~{MPI_STRB} (io), V2 PL25C/A9/PPC_A23 (io), V3 PL25B (io), V4 PL25A (io), V5 PL23B (io), W2 PL26C/VREF_7_05 (io), W3 PL27D (io), W4 PL28D/PLCK1C (io), W5 PL26D/A8/PPC_A22 (io), Y1 PL27C (io), Y2 PL27A (io), Y4 PL29C/A7/PPC_A21 (io), Y5 PL29D/VREF_7_06 (io)
part B pins: AK7 PB2D/PLL_CK6C/PPLL (io), AK8 PB5C (io), AK9 PB6D/D14 (io), AK10 PB9C/D17 (io), AK11 PB10C/VREF_6_07 (io), AK12 PB13A (io), AK13 PB14C/VREF_6_09 (io), AK14 PB15D (io), AK15 PB18D/D28 (io), AK16 PB19D/D30 (io), AK17 PB21D (io), AK18 PB24D (io), AK19 PB28A (io), AK20 PB29A (io), AK21 PB30A (io), AK22 PB31C (io), AK23 PB32D/VREF_5_05 (io), AK24 PB35C (io), AK25 PB38C/VREF_4_01 (io), AK26 PB39D (io), AK27 PB42C (io), AK28 PB44C (io), AK29 PB46C (io), AL5 PB2A/DP2 (io), AL6 PB3C (io), AL7 PB4C/VREF_6_05 (io), AL8 PB7D (io), AL9 PB10A (io), AL10 PB11C/D20 (io), AL11 PB13B (io), AL12 PB14D/D25 (io), AL13 PB17C (io), AL14 PB20A (io), AL15 PB20D/D31 (io), AL16 PB22A (io), AL17 PB23B (io), AL18 PB24A (io), AL19 PB24C/VREF_5_02 (io), AL20 PB27A (io), AL21 PB28D/PBCK1C (io), AL22 PB30C (io), AL23 PB30D/VREF_5_04 (io), AL24 PB34C (io), AL25 PB36C (io), AL26 PB38D (io), AL27 PB41C (io), AL28 PB41D (io), AL29 PB45A (io), AL30 PB47C/PLL_CK5T/PPLL (io), AM5 PB2B (io), AM6 PB3D (io), AM7 PB8C/D15 (io), AM8 PB8D/D16 (io), AM9 PB10D/D19 (io), AM10 PB12D/D22 (io), AM11 PB14B (io), AM14 PB19C/D29 (io), AM16 PB22C/VREF_5_01 (io), AM17 PB23C/PBCK0T (io), AM18 PB23D/PBCK0C (io), AM19 PB25C (io), AM21 PB28C/PBCK1T (io), AM24 PB33D (io), AM25 PB36D (io), AM26 PB37A (io), AM27 PB39C (io), AM28 PB43A (io), AM29 PB44D/VREF_4_03 (io), AM30 PB46D/VREF_4_04 (io), AN4 PB2C/PLL_CK6T/PPLL (io), AN5 PB4D/DP3 (io), AN6 PB6C/VREF_6_06 (io), AN7 PB9A (io), AN8 PB11A (io), AN9 PB12A (io), AN10 PB13C/D23 (io), AN11 PB14A (io), AN12 PB15C (io), AN13 PB17D (io), AN14 PB19A (io), AN15 PB21A (io), AN16 PB21C (io), AN17 PB23A (io), AN18 PB24B (io), AN19 PB25D (io), AN20 PB26D/VREF_5_03 (io), AN21 PB27D (io), AN22 PB29D (io), AN23 PB31D (io), AN24 PB33C (io), AN25 PB35A (io), AN26 PB36A (io), AN27 PB37D (io), AN28 PB40D/VREF_4_02 (io), AN29 PB43D (io), AN30 PB45D (io), AP4 PB3A (io), AP5 PB5D (io), AP6 PB7C (io), AP7 PB9D/D18 (io), AP8 PB11D/D21 (io), AP9 PB12C/VREF_6_08 (io), AP10 PB13D/D24 (io), AP12 PB16C/D26 (io), AP13 PB16D/D27 (io), AP14 PB18C/VREF_6_10 (io), AP15 PB20C/VREF_6_11 (io), AP16 PB22D (io), AP20 PB26C (io), AP21 PB27C (io), AP22 PB29C (io), AP23 PB32C (io), AP25 PB34D (io), AP26 PB35D/VREF_5_06 (io), AP27 PB37C (io), AP28 PB40C (io), AP29 PB45B (io), AP30 PB45C (io), AP31 PB47D/PLL_CK5C/PPLL (io)
part C pins: AA30 PR32D (io), AA31 PR31A (io), AA32 PR30C (io), AA33 PR28C (io), AA34 PR28A (io), AB30 PR33D (io), AB31 PR32C (io), AB33 PR31D/VREF_3_02 (io), AB34 PR29C (io), AC30 PR35D (io), AC31 PR34D (io), AC33 PR31C (io), AC34 PR30A (io), AD30 PR36C (io), AD31 PR34A (io), AD32 PR33C/VREF_3_01 (io), AD33 PR32B (io), AE30 PR38A (io), AE31 PR37D/VREF_4_08 (io), AE32 PR35C (io), AE33 PR34C (io), AE34 PR33B (io), AF30 PR40A (io), AF31 PR38D (io), AF32 PR37A (io), AF33 PR36B (io), AF34 PR36D (io), AG30 PR42D (io), AG31 PR40D (io), AG32 PR39C (io), AG33 PR37C (io), AG34 PR36A (io), AH30 PR45D (io), AH31 PR43D (io), AH32 PR39A (io), AH33 PR39D/VREF_4_07 (io), AH34 PR38C (io), AJ30 PR46C/PLL_CK4T/PLL2 (io), AJ31 PR44D (io), AJ32 PR43C (io), AJ33 PR41D (io), AJ34 PR40C (io), AK32 PR46D/PLL_CK4C/PLL2 (io), AK33 PR42C (io), AK34 PR41C/VREF_4_06 (io), AL33 PR45C (io), AL34 PR44C/VREF_4_05 (io), D33 PR5D (io), D34 PR6A (io), E31 PR3C/PLL_CK3T/PLL1 (io), E32 PR4D/VREF_2_04 (io), E33 PR5C (io), E34 PR7C (io), F31 PR6D (io), F32 PR6C (io), F33 PR9C/VREF_2_02 (io), F34 PR9A (io), G30 PR3D/PLL_CK3C/PLL1 (io), G31 PR8D (io), G32 PR9D (io), G33 PR10D (io), G34 PR12D (io), H30 PR4C (io), H31 PR10C (io), H32 PR11D (io), H33 PR11C (io), H34 PR13A (io), J30 PR7D/VREF_2_03 (io), J31 PR13D/VREF_2_01 (io), J32 PR12C (io), J33 PR13C (io), J34 PR13B (io), K30 PR8C (io), K31 PR14D (io), K32 PR14A (io), K33 PR15D (io), K34 PR15C (io), L30 PR10A (io), L31 PR16D (io), L32 PR17D (io), L33 PR15A (io), M30 PR11A (io), M31 PR18C (io), M33 PR18D (io), M34 PR17C/VREF_3_07 (io), N30 PR14C/VREF_3_08 (io), N31 PR19D (io), N33 PR19C (io), N34 PR18B (io), P30 PR17A (io), P31 PR20C (io), P32 PR21D/VREF_3_06 (io), P33 PR20D (io), P34 PR21C (io), R30 PR19B (io), R31 PR22C (io), R33 PR21A (io), R34 PR22D (io), T30 PR20A (io), T31 PR23D (io), T32 PR23C/VREF_3_05 (io), T33 PR23A (io), T34 PR24C/PRCK0T (io), U30 PR22A (io), U31 PR24D/PRCK0C (io), U32 PR24B (io), U33 PR24A (io), V30 PR26C (io), V31 PR26D/VREF_3_04 (io), V32 PR25D (io), V33 PR25C (io), W30 PR29D/VREF_3_03 (io), W31 PR28D (io), W32 PR26A (io), W33 PR27D/PRCK1C (io), Y30 PR30D (io), Y31 PR29B (io), Y33 PR27A (io), Y34 PR27C/PRCK1T (io)
part D pins: A4 PT3B (io), A5 PT4A (io), A6 PT5D (io), A7 PT6C/D2 (io), A8 PT9C/A19/MPI_TSZ1 (io), A9 PT10C/TMS (io), A10 PT12D (io), A12 PT16D/M0 (io), A13 PT19C/VREF_1_06 (io), A14 PT20C (io), A15 PT21C (io), A16 PT23B (io), A20 PT26C (io), A21 PT27D (io), A22 PT28C (io), A23 PT29D (io), A25 PT35B (io), A26 PT36A (io), A27 PT36C (io), A28 PT38D (io), A29 PT41D (io), A30 PT42D/VREF_2_06 (io), A31 PT45C (io), AK4 PTEMP, AL1 LVDS_R (io), B4 DONE (io), B5 PT3A (io), B6 PT3D (io), B7 PT5C/VREF_0_05 (io), B8 PT8D/A18/MPI_TSZ0 (io), B9 PT10D/D0 (io), B10 PT12C (io), B11 PT15C/A21/~{MPI_BURST} (io), B12 PT16C/M1 (io), B13 PT19A (io), B14 PT20A (io), B15 PT21A (io), B16 PT22D/PTCK0C (io), B17 PT23D/PTCK1C (io), B18 PT24A (io), B19 PT25D (io), B20 PT26D (io), B21 PT27C (io), B22 PT30C (io), B23 PT30D (io), B24 PT32D (io), B25 PT34C (io), B26 PT36B (io), B27 PT37A (io), B28 PT39D (io), B29 PT44C (io), B30 PT46C (io), B31 PT47C/PLL_CK2T/PPLL (io), C5 PT2B (io), C6 PT2C/PLL_CK1T/PPLL (io), C7 PT4D/TDI (io), C8 PT7D/VREF_0_04 (io), C9 PT11D/VREF_0_03 (io), C10 PT12A (io), C11 PT14D/M2 (io), C14 PT17D (io), C16 PT22C/PTCK0T (io), C17 PT23C/PTCK1T (io), C18 PT24B (io), C19 PT25C (io), C21 PT29C/VREF_1_03 (io), C24 PT33D (io), C25 PT35D (io), C26 PT37D (io), C27 PT40C/VREF_2_07 (io), C28 PT40D (io), C29 PT43C (io), C30 PT47D/PLL_CK2C/PPLL (io), D2 ~{RD_CFG} (in), D6 PT2D/PLL_CK1C/PPLL (io), D7 PT4C/TCK (io), D8 PT7C (io), D9 PT9D/A20/~{MPI_BDIP} (io), D10 PT11C (io), D11 PT13C/~{MPI_TEA} (io), D12 PT13D/VREF_0_02 (io), D13 PT17C/VREF_0_01 (io), D14 PT18C/~{MPI_ACK} (io), D15 PT20D (io), D16 PT22A (io), D17 PT23A (io), D18 PT24C/VREF_1_04 (io), D19 PT27A (io), D20 PT28D (io), D21 PT31C (io), D22 PT32C/VREF_1_02 (io), D23 PT34D/VREF_1_01 (io), D24 PT35A (io), D25 PT36D (io), D26 PT38C/VREF_2_08 (io), D27 PT41C (io), D28 PT44D (io), D29 PT45D/VREF_2_05 (io), D30 PLL_VF, E3 ~{RESET} (in), E4 RD_DATA/TDO (out), E6 CCLK (io), E7 ~{CFG_IRQ/MPI_IRQ} (out), E8 PT2A (io), E9 PT3C/VREF_0_06 (io), E10 PT4B (io), E11 PT6D/D1 (io), E12 PT8C/D3 (io), E13 PT11A (io), E14 PT14C/M3 (io), E15 PT15D/MPI_CLK (io), E16 PT18D/~{MPI_RTRY} (io), E17 PT19D (io), E18 PT21D/VREF_1_05 (io), E19 PT24D (io), E20 PT28A (io), E21 PT29A (io), E22 PT31D (io), E23 PT33C (io), E24 PT35C (io), E25 PT39C (io), E26 PT42C (io), E27 PT43D (io), E28 PT46D (io), G5 ~{PRGM} (in)
part E pins: A1 VSS (power), A2 VSS (power), A3 VDDIO0 (power), A11 VDDIO1 (power), A17 VDDIO1 (power), A18 VSS (power), A19 VDDIO1 (power), A24 VDDIO1 (power), A32 VDDIO2 (power), A33 VSS (power), A34 VSS (power), AA13 VSS (power), AA14 VSS (power), AA15 VSS (power), AA16 VDD15 (power), AA17 VDD15 (power), AA18 VDD15 (power), AA19 VDD15 (power), AA20 VSS (power), AA21 VSS (power), AA22 VSS (power), AB3 VSS (power), AB13 VSS (power), AB14 VSS (power), AB15 VSS (power), AB16 VDD15 (power), AB17 VDD15 (power), AB18 VDD15 (power), AB19 VDD15 (power), AB20 VSS (power), AB21 VSS (power), AB22 VSS (power), AB32 VSS (power), AC3 VDDIO7 (power), AC32 VDDIO3 (power), AD1 VDDIO7 (power), AD34 VDDIO3 (power), AK5 VDDIO6 (power), AK6 VDD33 (power), AK30 VDDIO4 (power), AK31 VDD33 (power), AL2 VDD33 (power), AL3 VDDIO6 (power), AL4 VSS (power), AL31 VSS (power), AL32 VDDIO4 (power), AM1 VDDIO6 (power), AM2 VDDIO6 (power), AM3 VSS (power), AM4 VDDIO6 (power), AM12 VDDIO5 (power), AM13 VSS (power), AM15 VDDIO5 (power), AM20 VDDIO5 (power), AM22 VSS (power), AM23 VDDIO5 (power), AM31 VDDIO4 (power), AM32 VSS (power), AM33 VDDIO4 (power), AM34 VDDIO4 (power), AN1 VSS (power), AN2 VSS (power), AN3 VDDIO6 (power), AN31 VDD33 (power), AN32 VDDIO4 (power), AN33 VSS (power), AN34 VSS (power), AP1 VSS (power), AP2 VSS (power), AP3 VDDIO6 (power), AP11 VDDIO5 (power), AP17 VDDIO5 (power), AP18 VSS (power), AP19 VDDIO5 (power), AP24 VDDIO5 (power), AP32 VDDIO4 (power), AP33 VSS (power), AP34 VSS (power), B1 VSS (power), B2 VSS (power), B3 VDDIO0 (power), B32 VDDIO2 (power), B33 VSS (power), B34 VSS (power), C1 VDDIO0 (power), C2 VDDIO0 (power), C3 VSS (power), C4 VDDIO0 (power), C12 VDDIO1 (power), C13 VSS (power), C15 VDDIO1 (power), C20 VDDIO1 (power), C22 VSS (power), C23 VDDIO1 (power), C31 VDDIO2 (power), C32 VSS (power), C33 VDDIO2 (power), C34 VDDIO2 (power), D3 VDDIO0 (power), D4 VSS (power), D5 VDD33 (power), D31 VSS (power), D32 VDDIO2 (power), E5 VDDIO0 (power), E29 VDD33 (power), E30 VDDIO2 (power), F5 VDD33 (power), F30 VDD33 (power), L1 VDDIO7 (power), L34 VDDIO3 (power), M3 VDDIO7 (power), M32 VDDIO3 (power), N3 VSS (power), N13 VSS (power), N14 VSS (power), N15 VSS (power), N16 VDD15 (power), N17 VDD15 (power), N18 VDD15 (power), N19 VDD15 (power), N20 VSS (power), N21 VSS (power), N22 VSS (power), N32 VSS (power), P13 VSS (power), P14 VSS (power), P15 VSS (power), P16 VDD15 (power), P17 VDD15 (power), P18 VDD15 (power), P19 VDD15 (power), P20 VSS (power), P21 VSS (power), P22 VSS (power), R3 VDDIO7 (power), R13 VSS (power), R14 VSS (power), R15 VSS (power), R16 VDD15 (power), R17 VDD15 (power), R18 VDD15 (power), R19 VDD15 (power), R20 VSS (power), R21 VSS (power), R22 VSS (power), R32 VDDIO3 (power), T13 VDD15 (power), T14 VDD15 (power), T15 VDD15 (power), T16 VSS (power), T17 VSS (power), T18 VSS (power), T19 VSS (power), T20 VDD15 (power), T21 VDD15 (power), T22 VDD15 (power), U1 VDDIO7 (power), U13 VDD15 (power), U14 VDD15 (power), U15 VDD15 (power), U16 VSS (power), U17 VSS (power), U18 VSS (power), U19 VSS (power), U20 VDD15 (power), U21 VDD15 (power), U22 VDD15 (power), U34 VDDIO3 (power), V1 VSS (power), V13 VDD15 (power), V14 VDD15 (power), V15 VDD15 (power), V16 VSS (power), V17 VSS (power), V18 VSS (power), V19 VSS (power), V20 VDD15 (power), V21 VDD15 (power), V22 VDD15 (power), V34 VSS (power), W1 VDDIO7 (power), W13 VDD15 (power), W14 VDD15 (power), W15 VDD15 (power), W16 VSS (power), W17 VSS (power), W18 VSS (power), W19 VSS (power), W20 VDD15 (power), W21 VDD15 (power), W22 VDD15 (power), W34 VDDIO3 (power), Y3 VDDIO7 (power), Y13 VSS (power), Y14 VSS (power), Y15 VSS (power), Y16 VDD15 (power), Y17 VDD15 (power), Y18 VDD15 (power), Y19 VDD15 (power), Y20 VSS (power), Y21 VSS (power), Y22 VSS (power), Y32 VDDIO3 (power)